# EAGLE library part LM358-WATERLEVE (library FansElectronics-Modul)
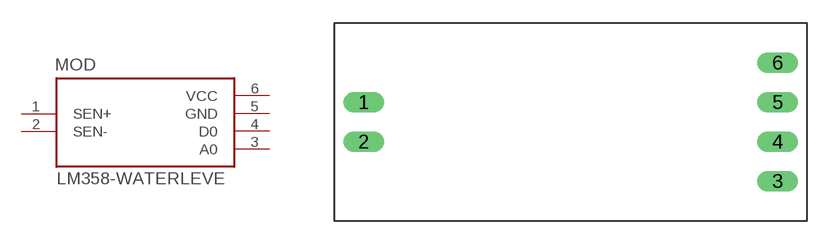
[diagram p32: symbol with the pads of LM358-WATERLEVEL; footprint LM358-WATERLEVEL]

Designator prefix MOD

## LM358-WATERLEVE  [LM358-WATERLEVEL]
1  SEN+
2  SEN-
3  A0
4  D0
5  GND  pwr
6  VCC  pwr

## Footprint LM358-WATERLEVEL (pad centres in mm)
drill 0.8 long: 1 -12.7,1.27; 2 -12.7,-1.27; 3 13.97,-3.81; 4 13.97,-1.27; 5 13.97,1.27; 6 13.97,3.81